# Altium footprint library interface_PcbLib.PcbLib: 36 footprints (part 2 of 3)
Each footprint in its own frame and in the unit in brackets; x right, y up, seen from the top. Pads: shape width x height; smd on the part's side, far side on the other; paste and mask are expansions set on the pad; w line width, h text height; cw(c..) or ccw(c..) is an arc to the next point about the centre after c.
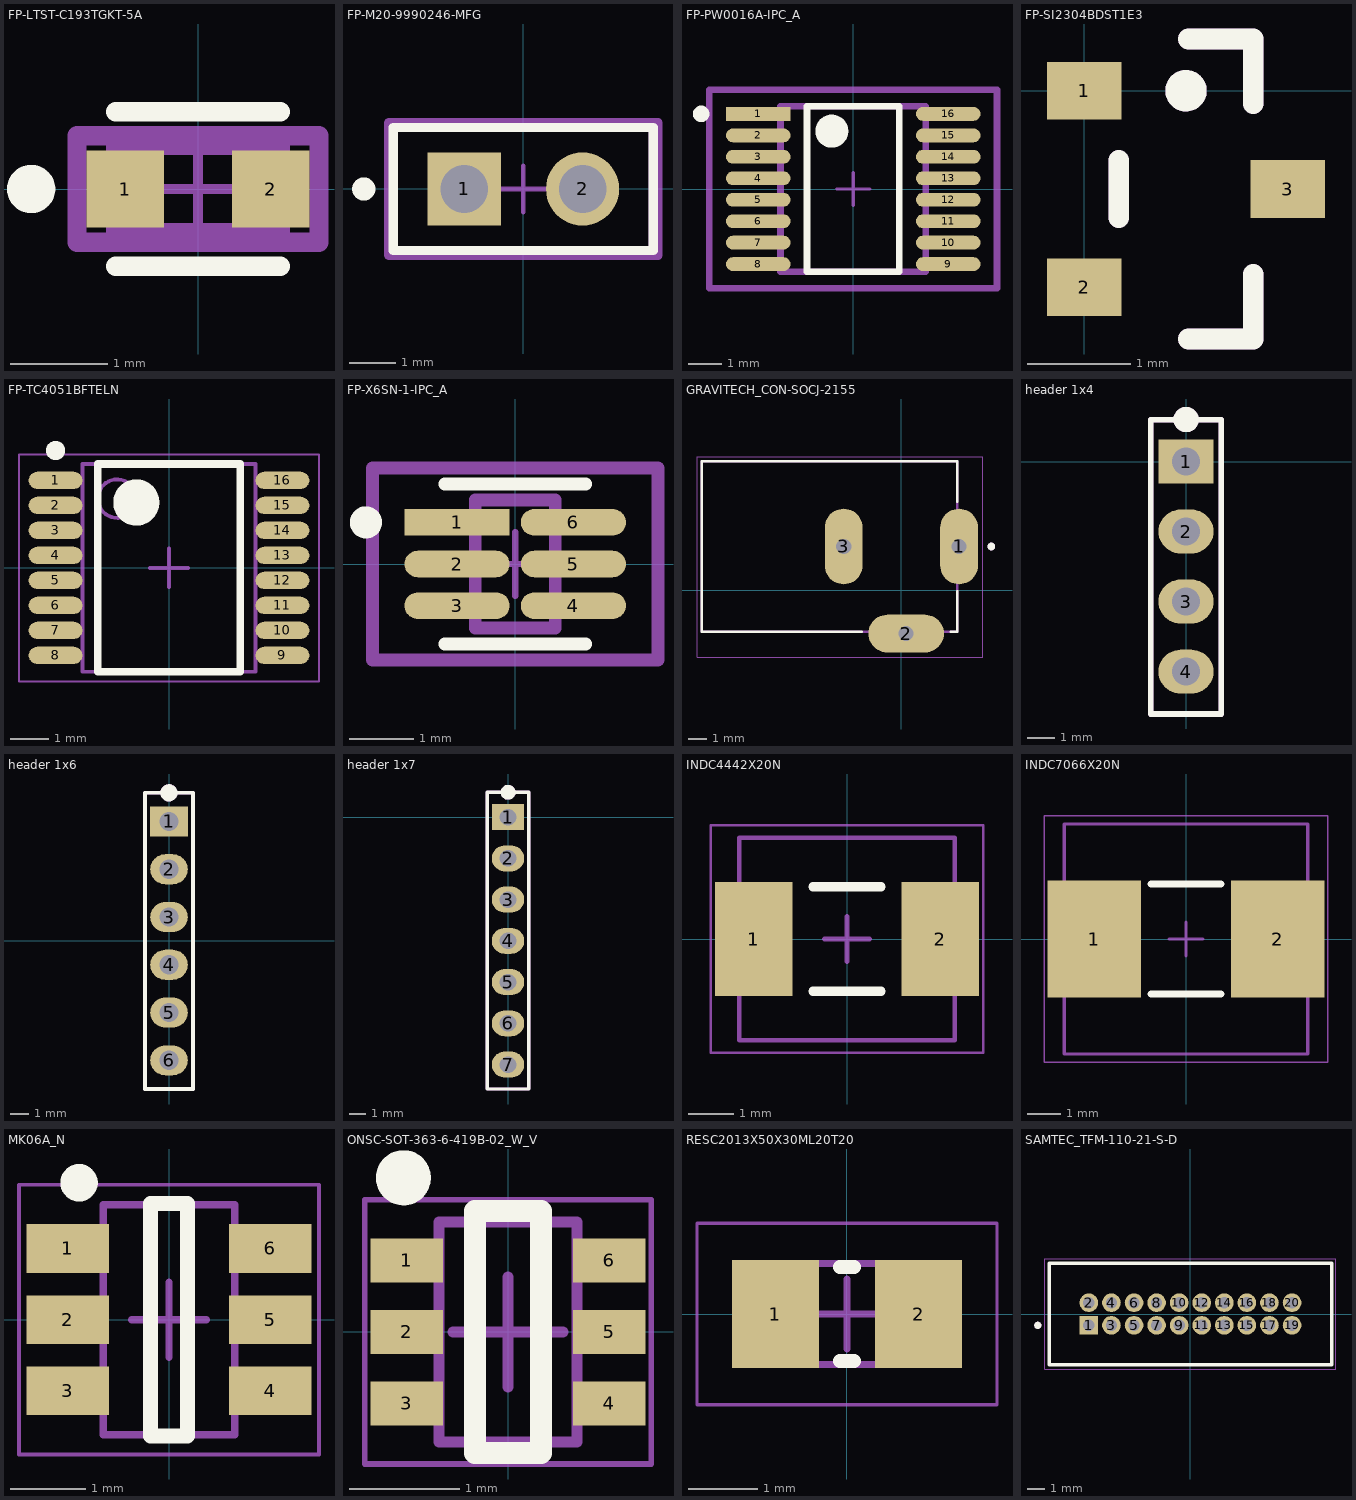
[diagram p1: the footprints below, top view; thin cyan lines are the x and y axes]

## FP-LTST-C193TGKT-5A [mm]
pads (2):
  rect 0.8x0.8 smd paste+0 mask+0: 1(-0.75,0) 2(0.75,0)
Top Overlay:
  circle w0.25: c-1.725,0 r0.125
  lines w0.2: -0.85,-0.8 0.85,-0.8 ; -0.85,0.8 0.85,0.8
Mechanical 5:
  lines w0.2: -1.25,-0.55 -1.25,0.55 1.25,0.55 1.25,-0.55 -1.25,-0.55
  text ".Designator" at 0,-0.001 h1
Mechanical 13:
  lines w0.2: -0.85,-0.45 -0.85,0.45 0.85,0.45 0.85,-0.45 -0.85,-0.45
Mechanical 15:
  lines w0.2: -1.25,-0.55 -1.25,0.55 1.25,0.55 1.25,-0.55 -1.25,-0.55
Mechanical 16:
  lines w0.1: -0.5,0 0.5,0 ; 0,-0.5 0,0.5
3D body "Diode_Lite-On_LTST-C193TBKT-5A_eec.STEP": height 0.25, standoff 0, extent -1.25,-0.55 1.25,0.55

## FP-M20-9990246-MFG [mm]
pads (2):
  rect 1.57x1.57 hole 1.02 paste-1000 mask+0: 1(-1.27,0)
  round 1.57 hole 1.02 paste-1000 mask+0: 2(1.27,0)
Top Overlay:
  circle w0.25: c-3.425,0 r0.125
  lines w0.2: -2.79,-1.32 -2.79,1.32 2.79,1.32 2.79,-1.32 -2.79,-1.32
Mechanical 5:
  lines w0.2: -2.89,-1.42 -2.89,1.42 2.89,1.42 2.89,-1.42 -2.89,-1.42
  text ".Designator" at 0,0.188 h1
Mechanical 13:
  lines w0.2: -2.79,-1.32 -2.79,1.32 2.79,1.32 2.79,-1.32 -2.79,-1.32
Mechanical 15:
  lines w0.2: -2.89,-1.42 -2.89,1.42 2.89,1.42 2.89,-1.42 -2.89,-1.42
Mechanical 16:
  lines w0.1: -0.5,0 0.5,0 ; 0,-0.5 0,0.5
3D body "Conn_Harwin_M20-9990246_eec.STEP": height 0.25, standoff 0, extent -2.89,-1.42 2.89,1.42

## FP-PW0016A-IPC_A [mm]
pads (16):
  rect 1.955x0.421 smd paste+0 mask+0: 1(-2.875,2.275)
  rrect100% 1.955x0.421 smd paste+0 mask+0: 2(-2.875,1.625) 3(-2.875,0.975) 4(-2.875,0.325) 5(-2.875,-0.325) 6(-2.875,-0.975) 7(-2.875,-1.625) 8(-2.875,-2.275) 9(2.875,-2.275) 10(2.875,-1.625) 11(2.875,-0.975) 12(2.875,-0.325) 13(2.875,0.325) 14(2.875,0.975) 15(2.875,1.625) 16(2.875,2.275)
Top Overlay:
  circle w0.5: c-0.648,1.75 r0.25
  circle w0.25: c-4.603,2.275 r0.125
  lines w0.2: -1.398,-2.5 1.398,-2.5 1.398,2.5 -1.398,2.5 -1.398,-2.5
Mechanical 5:
  lines w0.2: -4.353,-3 4.353,-3 4.353,3 -4.353,3 -4.353,-3
  text ".Designator" at 0,0.188 h1
Mechanical 13:
  lines w0.2: -2.2,-2.5 2.2,-2.5 2.2,2.5 -2.2,2.5 -2.2,-2.5
Mechanical 15:
  lines w0.2: -4.353,-3 4.353,-3 4.353,3 -4.353,3 -4.353,-3
Mechanical 16:
  lines w0.1: -0.5,0 0.5,0 ; 0,-0.5 0,0.5
3D body "IC_TEXAS_INSTRUMENTS_SN74HC165PWR_eec.STEP": height 0.25, standoff 0, extent -4.353,-3 4.353,3

## FP-SI2304BDST1E3 [mm]
pads (3):
  rect 0.724x0.559 smd: 1(0,0) 2(0,-1.9) 3(1.968,-0.95)
Top Overlay:
  circle w0.2: c0.984,0 r0.1
  lines w0.2: 0.334,-1.225 0.334,-0.95 0.334,-0.675 ; 1.009,-2.4 1.634,-2.4 ; 1.009,0.5 1.634,0.5 ; 1.634,-2.4 1.634,-1.775 1.634,-2.4 ; 1.634,0.5 1.634,-0.125 1.634,0.5
Top Assembly:
  circle w0.2: c0.984,0 r0.1
  lines w0.2: 0.334,-1.225 0.334,-0.95 0.334,-0.675 ; 1.009,-2.4 1.634,-2.4 ; 1.009,0.5 1.634,0.5 ; 1.634,-2.4 1.634,-1.775 1.634,-2.4 ; 1.634,0.5 1.634,-0.125 1.634,0.5
  text "'.Designator'" at -2.981,-1.242 h0.7

## FP-TC4051BFTELN [mm] "TSOP, 16-Leads, Body 5,15x4,40mm, Pitch 0,65mm, IPC Medium Density"
height 1.2
pads (16):
  oval 1.4x0.45 smd: 1(-2.95,2.275) 2(-2.95,1.625) 3(-2.95,0.975) 4(-2.95,0.325) 5(-2.95,-0.325) 6(-2.95,-0.975) 7(-2.95,-1.625) 8(-2.95,-2.275) 9(2.95,-2.275) 10(2.95,-1.625) 11(2.95,-0.975) 12(2.95,-0.325) 13(2.95,0.325) 14(2.95,0.975) 15(2.95,1.625) 16(2.95,2.275)
Top Overlay:
  circle w0.6: c-0.85,1.7 r0.3
  circle w0.25: c-2.95,3.05 r0.125
  lines w0.2: -1.85,-2.7 1.85,-2.7 1.85,2.7 -1.85,2.7 -1.85,-2.7
Top Assembly:
  circle w0.1: c-1.35,1.8 r0.5
  lines w0.1: -2.25,-2.7 2.25,-2.7 2.25,2.7 -2.25,2.7 -2.25,-2.7
Mechanical 15:
  lines w0.05: -3.9,-2.95 3.9,-2.95 3.9,2.95 -3.9,2.95 -3.9,-2.95
  lines w0.1: -0.5,0 0.5,0 ; 0,-0.5 0,0.5
3D body: height 1.2, standoff 0.05, extent -2.25,-2.7 2.25,2.7

## FP-X6SN-1-IPC_A [mm]
pads (6):
  rect 1.641x0.416 smd paste+0 mask+0: 1(-0.908,0.65)
  rrect100% 1.641x0.416 smd paste+0 mask+0: 2(-0.908,0) 3(-0.908,-0.65) 4(0.908,-0.65) 5(0.908,0) 6(0.908,0.65)
Top Overlay:
  circle w0.25: c-2.329,0.65 r0.125
  lines w0.2: -1.1,-1.25 1.1,-1.25 ; -1.1,1.25 1.1,1.25
Mechanical 5:
  lines w0.2: -2.229,-1.5 -2.229,1.5 2.229,1.5 2.229,-1.5 -2.229,-1.5
  text ".Designator" at 0,0.188 h1
Mechanical 13:
  lines w0.2: -0.625,-1 -0.625,1 0.625,1 0.625,-1 -0.625,-1
Mechanical 15:
  lines w0.2: -2.229,-1.5 -2.229,1.5 2.229,1.5 2.229,-1.5 -2.229,-1.5
Mechanical 16:
  lines w0.1: -0.5,0 0.5,0 ; 0,-0.5 0,0.5
3D body "IC_Maxim_Integrated_MAX4245AXT+T_eec.STEP": height 0.25, standoff 0, extent -2.229,-1.5 2.229,1.5

## GRAVITECH_CON-SOCJ-2155 [mm]
pads (3):
  oval 2x4 hole 0.8 square: 1(3.05,2.3) 3(-3.05,2.3)
  oval 4x2 hole 0.8 square: 2(0.25,-2.3)
Top Overlay:
  circle w0.2: c4.75,2.3 r0.1
  lines w0.127: -2.1,-2.2 -10.55,-2.2 -10.55,6.8 2.95,6.8 2.95,4.65 ; 2.6,-2.2 2.95,-2.2 2.95,-0.05
Mechanical 13:
  circle w0.2: c4.75,2.3 r0.1
  lines w0.127: -10.55,-2.2 -10.55,6.8 2.95,6.8 2.95,-2.2 -10.55,-2.2
Mechanical 15:
  lines w0.05: -10.8,-3.55 -10.8,7.05 4.3,7.05 4.3,-3.55 -10.8,-3.55
3D body "step_temp.STEP": height 11.1, standoff -4.3, extent -10.55,-2.45 3.55,6.8

## header 1x4 [mm]
pads (4):
  rect 2x1.6 hole 1.02: 1(0,0)
  oval 2x1.6 hole 1.02: 2(0,-2.54) 3(0,-5.08) 4(0,-7.62)
Top Overlay:
  circle w0.508: c0.005,1.52 r0.203
  lines w0.2: -1.27,-9.155 -1.27,1.51 -1.26,1.52 1.27,1.52 1.27,-9.155 -1.27,-9.155
Top Assembly:
  circle w0.508: c0.005,1.52 r0.203
  lines w0.2: -1.27,-9.155 -1.27,1.51 -1.26,1.52 1.27,1.52 1.27,-9.155 -1.27,-9.155
  text "'.Designator'" at 0.417,-9.475 h1
3D body "PPTC041LFBN-RC--3DModel-STEP-56544.STEP": height 8.52, standoff -3.19, extent -1.27,-9.144 1.27,1.524

## header 1x6 [mm]
pads (6):
  rect 2x1.6 hole 1.02: 1(0,6.35)
  oval 2x1.6 hole 1.02: 2(0,3.81) 3(0,1.27) 4(0,-1.27) 5(0,-3.81) 6(0,-6.35)
Top Overlay:
  circle w0.508: c-0.005,7.875 r0.203
  lines w0.2: -1.275,-7.875 -1.275,7.875 1.265,7.875 1.27,7.87 1.275,7.875 1.275,-7.875 -1.275,-7.875
Top Assembly:
  circle w0.508: c-0.005,7.875 r0.203
  lines w0.2: -1.275,-7.875 1.275,-7.875 1.275,7.875 1.27,7.87 1.265,7.875 -1.275,7.875 -1.275,-7.875
  text "'.Designator'" at 0.417,-5.665 h1
3D body "PPTC061LFBN-RC--3DModel-STEP-56544.STEP": height 8.52, standoff -3.19, extent -1.27,-7.874 1.27,7.874

## header 1x7 [mm]
pads (7):
  rect 2x1.6 hole 1.02: 1(0,0)
  oval 2x1.6 hole 1.02: 2(0,-2.54) 3(0,-5.08) 4(0,-7.62) 5(0,-10.16) 6(0,-12.7) 7(0,-15.24)
Top Overlay:
  circle w0.508: c0.005,1.53 r0.203
  lines w0.2: -1.275,1.53 -1.275,-16.745 1.275,-16.745 1.27,-16.74 ; -1.27,1.52 -1.27,1.525 -1.265,1.53 1.275,1.53 1.275,-16.735
Top Assembly:
  circle w0.508: c0.005,1.53 r0.203
  lines w0.2: -1.275,1.53 -1.275,-16.745 1.275,-16.745 1.27,-16.74 ; -1.27,1.52 -1.27,1.525 -1.265,1.53 1.275,1.53 1.275,-16.735
  text "'.Designator'" at 0.417,-13.285 h1
3D body "PPTC071LFBN-RC--3DModel-STEP-56544.STEP": height 8.52, standoff -3.19, extent -1.27,-16.764 1.27,1.524

## INDC4442X20N [mm] "Chip Inductor, 2-Leads, Body 4,40x4,20mm, IPC Medium Density"
height 2
pads (2):
  rect 1.7x2.5 smd: 1(-2.05,0) 2(2.05,0)
Top Overlay:
  lines w0.2: -0.75,-1.15 0.75,-1.15 ; -0.75,1.15 0.75,1.15
Top Assembly:
  lines w0.1: -2.375,-2.225 2.375,-2.225 2.375,2.225 -2.375,2.225 -2.375,-2.225
  text "'.Designator'" at -3.965,-0.292 h0.7
Mechanical 15:
  lines w0.05: -3,-2.5 3,-2.5 3,2.5 -3,2.5 -3,-2.5
  lines w0.1: -0.5,0 0.5,0 ; 0,-0.5 0,0.5
3D body: height 2, standoff 0, extent 1.575,-2.225 2.375,2.225
3D body: height 2, standoff 0, extent -2.375,-2.225 -1.575,2.225
3D body: height 2, standoff 0, extent -1.575,-2.225 1.575,2.225

## INDC7066X20N [mm] "Chip Inductor, 2-Leads, Body 7,00x6,60mm, IPC Medium Density"
height 2
pads (2):
  rect 2.8x3.5 smd: 1(-2.75,0) 2(2.75,0)
Top Overlay:
  lines w0.2: -1.05,-1.65 1.05,-1.65 ; -1.05,1.65 1.05,1.65
Top Assembly:
  lines w0.1: -3.65,-3.45 3.65,-3.45 3.65,3.45 -3.65,3.45 -3.65,-3.45
  text "'.Designator'" at -3.965,-0.292 h0.7
Mechanical 15:
  lines w0.05: -4.25,-3.7 4.25,-3.7 4.25,3.7 -4.25,3.7 -4.25,-3.7
  lines w0.1: -0.5,0 0.5,0 ; 0,-0.5 0,0.5
3D body: height 2, standoff 0, extent 1.85,-3.45 3.65,3.45
3D body: height 2, standoff 0, extent -3.65,-3.45 -1.85,3.45
3D body: height 2, standoff 0, extent -1.85,-3.45 1.85,3.45

## MK06A_N [mm] "SOT23, 6-Leads, Body 3.0x1.7mm, Pitch 0.95mm, Lead Span 2.9mm, IPC Medium Density"
height 1
pads (6):
  rect 1.1x0.65 smd: 1(-1.35,0.95) 2(-1.35,0) 3(-1.35,-0.95) 4(1.35,-0.95) 5(1.35,0) 6(1.35,0.95)
Top Overlay:
  circle w0.25: c-1.2,1.825 r0.125
  lines w0.2: -0.25,-1.55 0.25,-1.55 0.25,1.55 -0.25,1.55 -0.25,-1.55
Mechanical 13:
  lines w0.1: -0.875,-1.535 -0.875,1.535 0.875,1.535 0.875,-1.535 -0.875,-1.535
Mechanical 15:
  lines w0.05: -2,-1.8 -2,1.8 2,1.8 2,-1.8 -2,-1.8
  lines w0.1: -0.5,0 0.5,0 ; 0,-0.5 0,0.5
3D body: height 1, standoff 0.01, extent -0.875,-1.535 0.875,1.535

## ONSC-SOT-363-6-419B-02_W_V [mm] "SOT23, 6-Leads, Body 2x1.25mm, Pitch 0.65mm"
height 1.1
pads (6):
  rect 0.66x0.4 smd: 1(-0.92,0.65) 2(-0.92,0) 3(-0.92,-0.65) 4(0.92,-0.65) 5(0.92,0) 6(0.92,0.65)
Top Overlay:
  circle w0.25: c-0.95,1.4 r0.125
  lines w0.2: -0.3,-1.1 -0.3,1.1 0.3,1.1 0.3,-1.1 -0.3,-1.1
Mechanical 13:
  lines w0.1: -0.625,-1 0.625,-1 0.625,1 -0.625,1 -0.625,-1
Mechanical 15:
  lines w0.05: -1.3,-1.2 1.3,-1.2 1.3,1.2 -1.3,1.2 -1.3,-1.2
  lines w0.1: -0.5,0 0.5,0 ; 0,-0.5 0,0.5
3D body: height 1.1, standoff 0, extent -0.625,-1 0.625,1

## RESC2013X50X30ML20T20 [mm] "Chip Resistor, 2-Leads, Body 2.00x1.25mm, IPC Low Density"
height 0.5
pads (2):
  rect 1.25x1.55 smd: 1(-1.025,0) 2(1.025,0)
Top Overlay:
  lines w0.2: -0.1,-0.675 0.1,-0.675 ; -0.1,0.675 0.1,0.675
Top Assembly:
  text "'.Designator'" at -3.965,-0.292 h0.7
Mechanical 13:
  lines w0.1: -1.1,-0.725 -1.1,0.725 1.1,0.725 1.1,-0.725 -1.1,-0.725
Mechanical 15:
  lines w0.05: -2.15,-1.3 -2.15,1.3 2.15,1.3 2.15,-1.3 -2.15,-1.3
  lines w0.1: -0.5,0 0.5,0 ; 0,-0.5 0,0.5
3D body: height 0.5, standoff 0, extent -0.8,-0.725 0.8,0.725
3D body: height 0.5, standoff 0, extent -1.1,-0.725 -0.8,0.725
3D body: height 0.5, standoff 0, extent 0.8,-0.725 1.1,0.725

## SAMTEC_TFM-110-21-S-D [mm]
pads (20):
  rect 1.05x1.05 hole 0.635: 1(-5.715,-0.635)
  round 1.05 hole 0.635: 2(-5.715,0.635) 3(-4.445,-0.635) 4(-4.445,0.635) 5(-3.175,-0.635) 6(-3.175,0.635) 7(-1.905,-0.635) 8(-1.905,0.635) 9(-0.635,-0.635) 10(-0.635,0.635) 11(0.635,-0.635) 12(0.635,0.635) 13(1.905,-0.635) 14(1.905,0.635) 15(3.175,-0.635) 16(3.175,0.635) 17(4.445,-0.635) 18(4.445,0.635) 19(5.715,-0.635) 20(5.715,0.635)
Top Overlay:
  circle w0.2: c-8.59,-0.635 r0.1
  lines w0.2: -7.94,-2.86 -7.94,2.86 7.94,2.86 7.94,-2.86 -7.94,-2.86
Mechanical 13:
  circle w0.2: c-8.59,-0.635 r0.1
  lines w0.1: -7.94,-2.86 -7.94,2.86 ; -7.94,-2.86 7.94,-2.86 ; -7.94,-2.86 -7.94,2.86 ; -7.94,2.86 7.94,2.86 ; -7.94,2.86 7.94,2.86 ; 7.94,-2.86 7.94,2.86 ; 7.94,-2.86 7.94,2.86
Mechanical 15:
  lines w0.05: -8.19,-3.11 -8.19,3.11 8.19,3.11 8.19,-3.11 -8.19,-3.11
3D body "TFM-110-21-S-D.stp": height 9.16, standoff -2.02, extent -7.937,-2.857 7.938,2.858